# EAGLE library part CECL08D (library BaseApp)
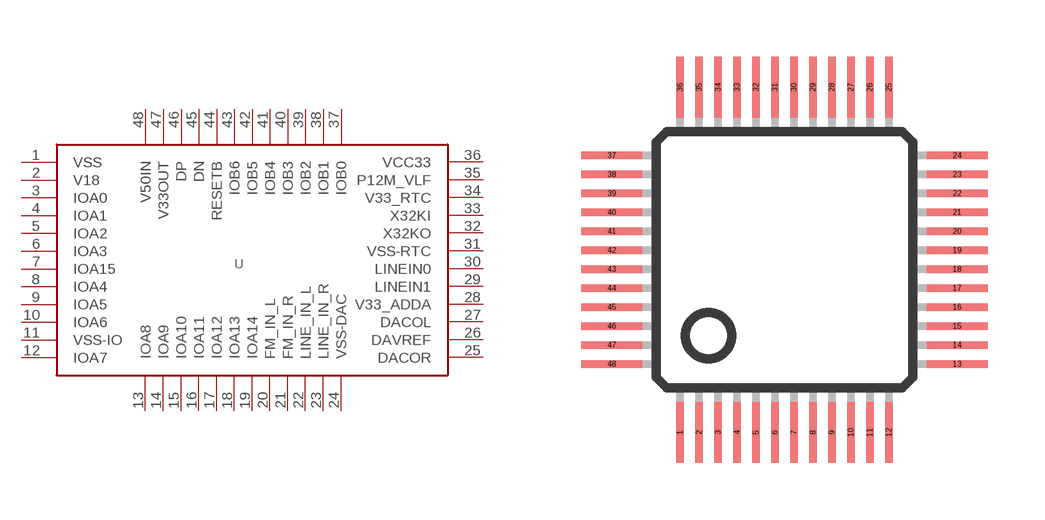
[diagram p66: symbol with the pads of 48LQFP; footprint 48LQFP]

Designator prefix -

## CECL08D  [48LQFP]
1  VSS
2  V18
3  IOA0
4  IOA1
5  IOA2
6  IOA3
7  IOA15
8  IOA4
9  IOA5
10  IOA6
11  VSS-IO
12  IOA7
13  IOA8
14  IOA9
15  IOA10
16  IOA11
17  IOA12
18  IOA13
19  IOA14
20  FM_IN_L
21  FM_IN_R
22  LINE_IN_L
23  LINE_IN_R
24  VSS-DAC
25  DACOR
26  DAVREF
27  DACOL
28  V33_ADDA
29  LINEIN1
30  LINEIN0
31  VSS-RTC
32  X32KO
33  X32KI
34  V33_RTC
35  P12M_VLF
36  VCC33
37  IOB0
38  IOB1
39  IOB2
40  IOB3
41  IOB4
42  IOB5
43  IOB6
44  RESETB
45  DN
46  DP
47  V33OUT
48  V50IN

## Footprint 48LQFP (pad centres in mm)
smd 0.2 x 1.6: 1 -2.75,-4.55; 2 -2.25,-4.55; 3 -1.75,-4.55; 4 -1.25,-4.55; 5 -0.75,-4.55; 6 -0.25,-4.55; 7 0.25,-4.55; 8 0.75,-4.55; 9 1.25,-4.55; 10 1.75,-4.55; 11 2.25,-4.55; 12 2.75,-4.55; 25 2.75,4.55; 26 2.25,4.55; 27 1.75,4.55; 28 1.25,4.55; 29 0.75,4.55; 30 0.25,4.55; 31 -0.25,4.55; 32 -0.75,4.55; 33 -1.25,4.55; 34 -1.75,4.55; 35 -2.25,4.55; 36 -2.75,4.55
smd 1.6 x 0.2: 13 4.55,-2.75; 14 4.55,-2.25; 15 4.55,-1.75; 16 4.55,-1.25; 17 4.55,-0.75; 18 4.55,-0.25; 19 4.55,0.25; 20 4.55,0.75; 21 4.55,1.25; 22 4.55,1.75; 23 4.55,2.25; 24 4.55,2.75; 37 -4.55,2.75; 38 -4.55,2.25; 39 -4.55,1.75; 40 -4.55,1.25; 41 -4.55,0.75; 42 -4.55,0.25; 43 -4.55,-0.25; 44 -4.55,-0.75; 45 -4.55,-1.25; 46 -4.55,-1.75; 47 -4.55,-2.25; 48 -4.55,-2.75